# Altium schematic symbol library Capstone_Motor_Driver.SchLib: 8 symbols
Pins are listed as number, name and electrical type; pins without a type are passive.

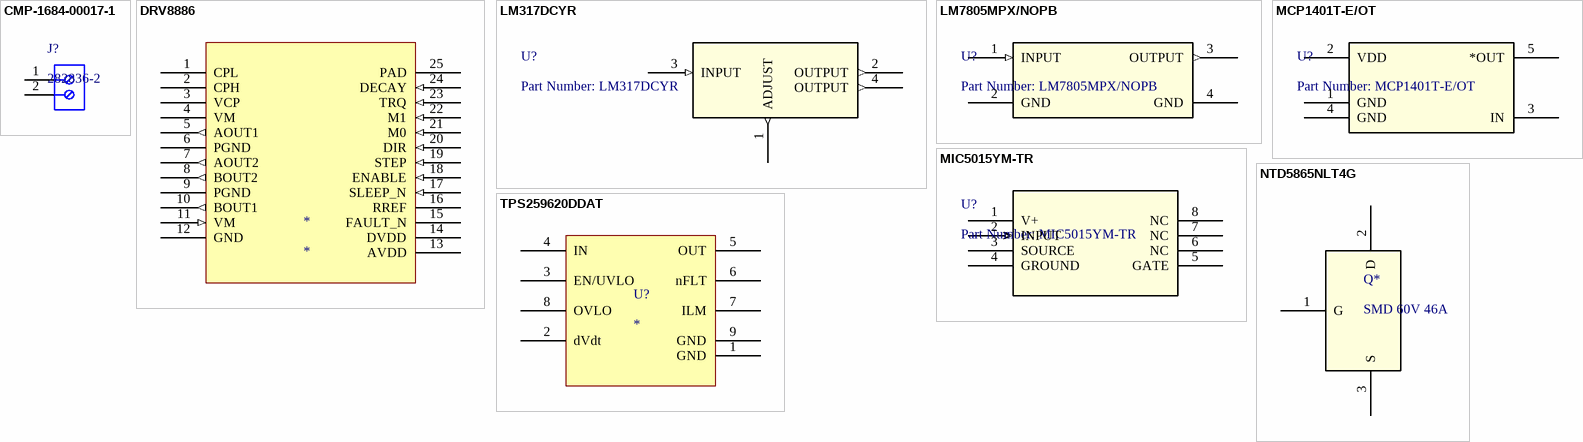
[diagram p0: symbols CMP-1684-00017-1 to TPS259620DDAT]

## CMP-1684-00017-1
designator J?, comment 282836-2
Female Header, Pitch 5 mm, 1 x 2 Position, Height 10 mm, Tail Length 3.5 mm, Rohs, Bulk; Manufacturer: TE Connectivity; Wire Gauge: 16-30AWG; Product Training Modules: Wire-to-BoardEurostyleTerminalBlocks; Clamp Material - Plating: Brass-NickelPlated; Voltage: 300V; Mating Orientation: HorizontalwithBoard; Current: 13.5A; Pitch: 0.197"(5.00mm); Screw Thread: M3; 3D Model: 282836-2.pdf; Other Names: 5ULV-02B / A98076; Dynamic Catalog: BuchananSeries; Number of Levels: 1; Torque - Screw: 0.68Nm(6Lb-In); Featured Product: EurostyleTerminalBlockConnectors; Positions Per Level: 2; Wire Termination: Screw-RisingCageClamp; Datasheet URL: http://www.te.com.cn/commerce/DocumentDelivery/DDEController?Action=showdoc&DocId=Catalog+Section%7F1308389_EUROSTYLE_TERMINAL_BLOCKS%7F0607%7Fpdf%7FEnglish%7FENG_CS_1308389_EUROSTYLE_TERMINAL_BLOCKS_0607.pdf%7F282836-2; Color: Green; Family: TerminalBlocks-WiretoBoard; RoHS Information: 282836-2StatementofCompliance; Standard Package: 300; Contact Material - Plating: Brass-TinPlated; Manufacturer URL: http://www.te.com; Housing Material: Polyamide(PA66),Nylon6/6; Features: Interlocking(Side); Package Description: Female Header, Pitch 5 mm, 1 x 2 Position, Height 10 mm, Tail Length 3.5 mm; Mounting Type: ThroughHole; Package Reference: THD; Packaging: Bulk; Series: Buchanan; Category: Connectors,Interconnects; Screw Material - Plating: Brass-NickelPlated
footprint TECO-282836-2_V (Female Header, Pitch 5mm, 1 x 2 Position, Height 10mm)
pins: 1, 2

## DRV8886
designator *
footprint PWP0024B_N
pins: 1 CPL, 2 CPH, 3 VCP, 4 VM, 5 AOUT1 (out), 6 PGND, 7 AOUT2 (out), 8 BOUT2 (out), 9 PGND, 10 BOUT1 (out), 11 VM (in), 12 GND, 13 AVDD, 14 DVDD, 15 FAULT_N, 16 RREF, 17 SLEEP_N (in), 18 ENABLE (in), 19 STEP (in), 20 DIR (in), 21 M0 (in), 22 M1 (in), 23 TRQ (in), 24 DECAY (in), 25 PAD

## LM317DCYR
designator U?, comment Part Number: LM317DCYR
No Description Available; Vendor: Texas Instruments; Built_By: EMA_UL_Team; Manufacturer_Part_Number: LM317DCYR; Copyright: Copyright (C) 2018 Accelerated Designs. All rights reserved; RefDes: RefDes; Type: DEV; Value: Value; ComponentLink1Description: Digikey; ComponentLink1URL: https://www.digikey.com/product-detail/en/texas-instruments/LM317DCYR/296-12602-1-ND/443738; ComponentLink2Description: Datasheet; ComponentLink2URL: http://www.ti.com/lit/ds/symlink/lm317.pdf
footprint DCY4
pins: 1 ADJUST (out), 2 OUTPUT (out), 3 INPUT (in), 4 OUTPUT (out)

## LM7805MPX/NOPB
designator U?, comment Part Number: LM7805MPX/NOPB
No Description Available; Vendor: Texas Instruments; Built_By: EMA_Jessica; Manufacturer_Part_Number: LM7805MPX/NOPB; Copyright: Copyright (C) 2018 Accelerated Designs. All rights reserved; RefDes: RefDes; Type: DEV; Value: Value
footprint DCY4
pins: 1 INPUT (in), 2 GND (power), 3 OUTPUT (out), 4 GND (power)

## MCP1401T-E/OT
designator U?, comment Part Number: MCP1401T-E/OT
No Description Available; Vendor: Microchip; Built_By: EMA_UL_Team; Manufacturer_Part_Number: MCP1401T-E/OT; Copyright: Copyright (C) 2018 Accelerated Designs. All rights reserved; RefDes: RefDes; Type: DEV; Value: Value
footprint SOT-23-5_MC
pins: 1 GND, 2 VDD, 3 IN, 4 GND, 5 *OUT

## MIC5015YM-TR
designator U?, comment Part Number: MIC5015YM-TR
No Description Available; Vendor: Microchip; Built_By: EMA_Molly; Manufacturer_Part_Number: MIC5015YM-TR; Copyright: Copyright (C) 2018 Accelerated Designs. All rights reserved; RefDes: RefDes; Type: DEV; Value: Value
footprint SOIC-8_M
pins: 1 V+ (power), 2 INPUT (in), 3 SOURCE, 4 GROUND (power), 5 GATE, 6 NC, 7 NC, 8 NC

## NTD5865NLT4G
designator Q*, comment SMD 60V 46A
N-Channel 60V 46A (Tc) 71W (Tc) Surface Mount DPAK; ComponentLink1Description: Digikey; ComponentLink1URL: https://www.digikey.com/product-detail/en/on-semiconductor/NTD5865NLT4G/NTD5865NLT4GOSCT-ND/2409629
footprint SC_TO-252AA (D-PAK)
pins: 1 G, 2 D, 3 S

## TPS259620DDAT
designator U?
footprint TPS259620DDAT - duplicate
pins: 1 GND, 2 dVdt, 3 EN/UVLO, 4 IN, 5 OUT, 6 nFLT, 7 ILM, 8 OVLO, 9 GND